# Altium footprint library Calibration_Laser_Board.PcbLib: 3 footprints
Each footprint in its own frame and in the unit in brackets; x right, y up, seen from the top. Pads: shape width x height; smd on the part's side, far side on the other; paste and mask are expansions set on the pad; w line width, h text height; cw(c..) or ccw(c..) is an arc to the next point about the centre after c.
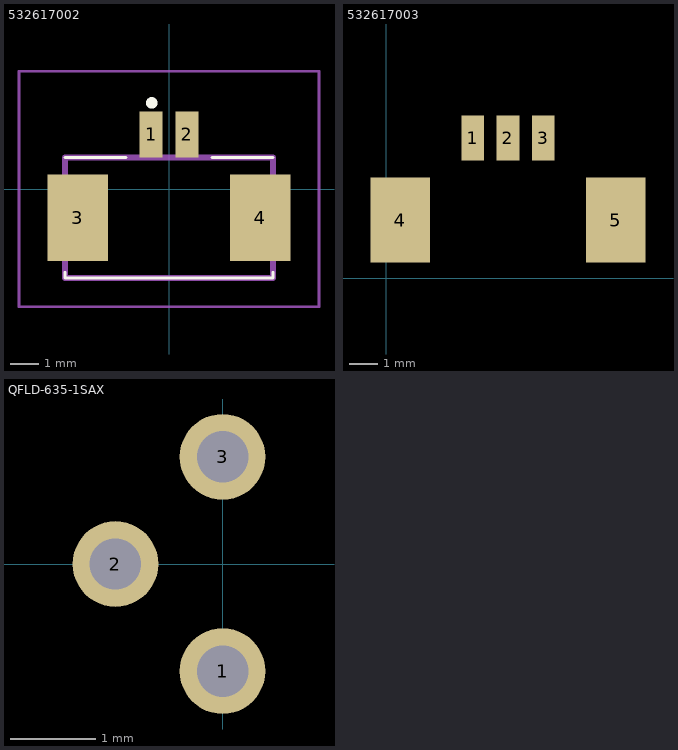
[diagram p0: the footprints below, top view; thin cyan lines are the x and y axes]

## 532617002 [mm]
pads (4):
  rect 0.8x1.6 smd: 1(-0.625,1.9) 2(0.625,1.9)
  rect 2.1x3 smd: 3(-3.175,-1) 4(3.175,-1)
Top Overlay:
  lines w0.1: -3.625,-2.9 -3.625,-3.1 3.625,-3.1 3.625,-2.9 ; -3.625,1.1 -1.5,1.1 ; 1.5,1.1 3.625,1.1
  lines w0.2: -0.7,3 ccw(c-0.6,3) -0.5,3 ccw(c-0.6,3) -0.7,3
Mechanical 13:
  lines w0.2: -3.625,-3.1 3.625,-3.1 3.625,1.1 -3.625,1.1 -3.625,-3.1
Mechanical 15:
  lines w0.1: -5.225,-4.1 5.225,-4.1 5.225,4.1 -5.225,4.1 -5.225,-4.1

## 532617003 [mm]
pads (5):
  rect 0.8x1.6 smd: 1(3.058,4.948) 2(4.308,4.948) 3(5.558,4.948)
  rect 2.1x3 smd: 4(0.508,2.048) 5(8.108,2.048)
3D body "532617003.stp": height 3.38, standoff -0.02, extent -0.137,-0.06 8.763,5.14

## QFLD-635-1SAX [mm]
pads (3):
  round 1 hole 0.6: 1(0,-1.25) 2(-1.25,0) 3(0,1.25)